# EAGLE library part MCP3301 (library KylePile)
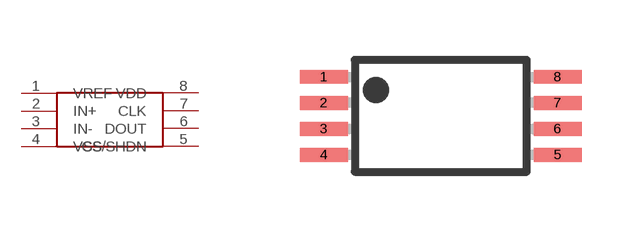
[diagram p9: symbol with the pads of TSSOP8; footprint TSSOP8]

Designator prefix -

## MCP3301  [TSSOP8]
1  VREF
2  IN+
3  IN-
4  VSS
5  CS/SHDN
6  DOUT
7  CLK
8  VDD

## Footprint TSSOP8 (pad centres in mm)
Plastic Small Outline
smd 1.2 x 0.35: 1 -2.925,0.975; 2 -2.925,0.325; 3 -2.925,-0.325; 4 -2.925,-0.975; 5 2.925,-0.975; 6 2.925,-0.325; 7 2.925,0.325; 8 2.925,0.975